# Altium schematic symbol library BK-917.SchLib: 1 symbol
Pins are listed as number, name and electrical type; pins without a type are passive.

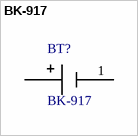
[diagram p0: symbol BK-917]

## BK-917
designator BT?
BATTERY RETAINER COIN PC PIN; MF: MPD; Package: None; MP: BK-917; SnapEDA_Link: https://www.snapeda.com/parts/BK-917/Memory%20Protection%20Devices/view-part/4219668/?ref=snap; Availability: Unavailable; Price: None; Value: *
footprint *BAT_BK-917_BK-917(Primary)
pins: 1 NEG, S1 POS, S2 POS, S3 POS, S4 POS